# Altium footprint library 拨动开关.PcbLib: 1 footprints
Each footprint in its own frame and in the unit in brackets; x right, y up, seen from the top. Pads: shape width x height; smd on the part's side, far side on the other; paste and mask are expansions set on the pad; w line width, h text height; cw(c..) or ccw(c..) is an arc to the next point about the centre after c.
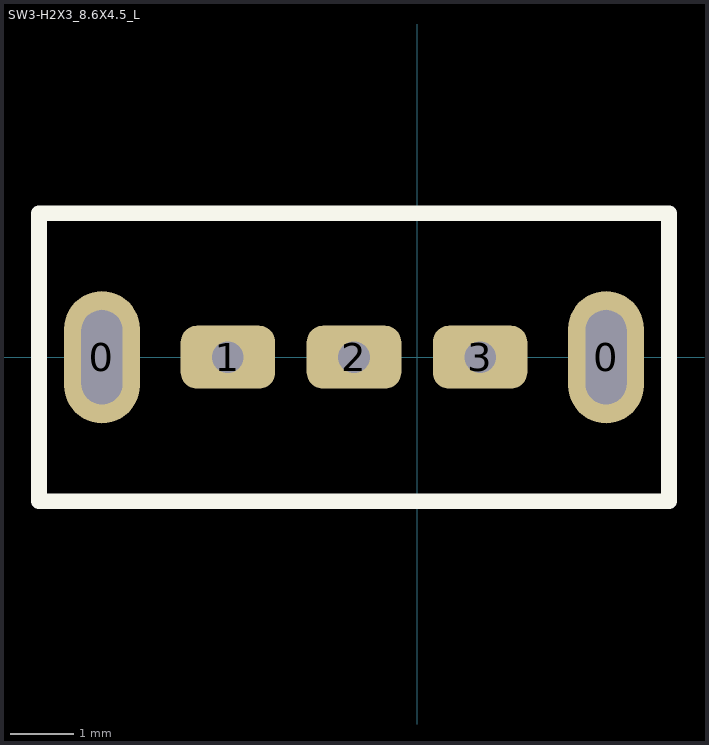
[diagram p0: the footprint, top view; thin cyan lines are the x and y axes]

## SW3-H2X3_8.6X4.5_L [mm] "领祥电子[立式2mm]"
height 4
pads (5):
  oval 1.2x2.1 hole 0.65 slot 1.5 at 90 deg: 0(-5,0) 0(3,0)
  rrect50% 1.5x1 hole 0.5 square: 1(-3,0) 2(-1,0) 3(1,0)
Top Overlay:
  lines w0.25: -6,-2.286 4,-2.286 4,2.286 -6,2.286 -6,-2.286
Mechanical 16:
  pour cut-out: 3.734,-2.819
3D body "sw19.stp": height 8.91, standoff -3.23, extent -5.262,-2.234 3.23,2.21